# EAGLE library part TRF7960ARHBT (library apa102-test-board)
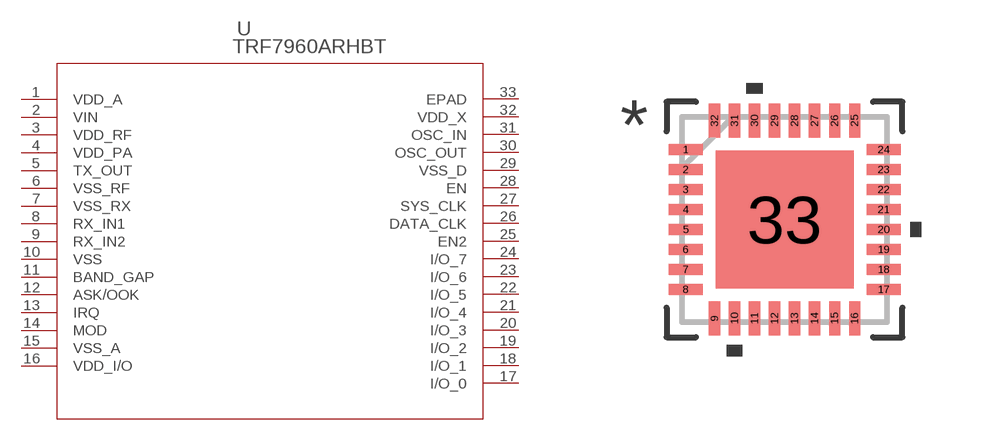
[diagram p5: symbol with the pads of RHB32_3P45X3P45; footprint RHB32_3P45X3P45]

Designator prefix U

## TRF7960ARHBT (MANUFACTURER_PART_NUMBER: TRF7960ARHBT; VENDOR: Texas Instruments)  [RHB32_3P45X3P45]
1  VDD_A  out
2  VIN  pas
3  VDD_RF  out
4  VDD_PA  in
5  TX_OUT  out
6  VSS_RF  pas
7  VSS_RX  pas
8  RX_IN1  in
9  RX_IN2  in
10  VSS  pas
11  BAND_GAP  out
12  ASK/OOK
13  IRQ  out
14  MOD  in
15  VSS_A  pas
16  VDD_I/O  pas
17  I/O_0
18  I/O_1
19  I/O_2
20  I/O_3
21  I/O_4
22  I/O_5
23  I/O_6
24  I/O_7
25  EN2  in
26  DATA_CLK  in
27  SYS_CLK  out
28  EN  in
29  VSS_D  pas
30  OSC_OUT  pas
31  OSC_IN  in
32  VDD_X  out
33  EPAD  pas

## Footprint RHB32_3P45X3P45 (pad centres in mm)
smd 0.85 x 0.28: 1 -2.475,1.75; 2 -2.475,1.25; 3 -2.475,0.75; 4 -2.475,0.25; 5 -2.475,-0.25; 6 -2.475,-0.75; 7 -2.475,-1.25; 8 -2.475,-1.75; 17 2.475,-1.75; 18 2.475,-1.25; 19 2.475,-0.75; 20 2.475,-0.25; 21 2.475,0.25; 22 2.475,0.75; 23 2.475,1.25; 24 2.475,1.75
smd 0.28 x 0.85: 9 -1.75,-2.475; 10 -1.25,-2.475; 11 -0.75,-2.475; 12 -0.25,-2.475; 13 0.25,-2.475; 14 0.75,-2.475; 15 1.25,-2.475; 16 1.75,-2.475; 25 1.75,2.475; 26 1.25,2.475; 27 0.75,2.475; 28 0.25,2.475; 29 -0.25,2.475; 30 -0.75,2.475; 31 -1.25,2.475; 32 -1.75,2.475
smd 3.45 x 3.45: 33 0,0